# Altium schematic symbol library Key.SchLib: 2 symbols
Pins are listed as number, name and electrical type; pins without a type are passive.

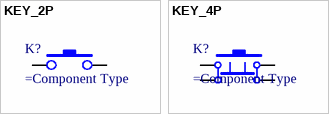
[diagram p0: symbols KEY_2P to KEY_4P]

## KEY_2P
designator K?
pins: 1, 2

## KEY_4P
designator K?
pins: 1 COMMON1, 2 NO1, 3 COMMON2, 4 NO2